# Altium schematic symbol library CONN2x2.Schlib: 1 symbol
Pins are listed as number, name and electrical type; pins without a type are passive.

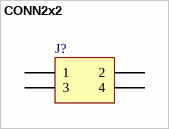
[diagram p0: symbol CONN2x2]

## CONN2x2
designator J?
Connector, 3-Pin, Dual row
signal-integrity model Connector
pins: 1, 2, 3, 4
1 alternate drawing of the same symbol